# EAGLE library part PIC32MK0512MCJ048T-I/Y8X (library 2022-08-07_22-50-41_Library)
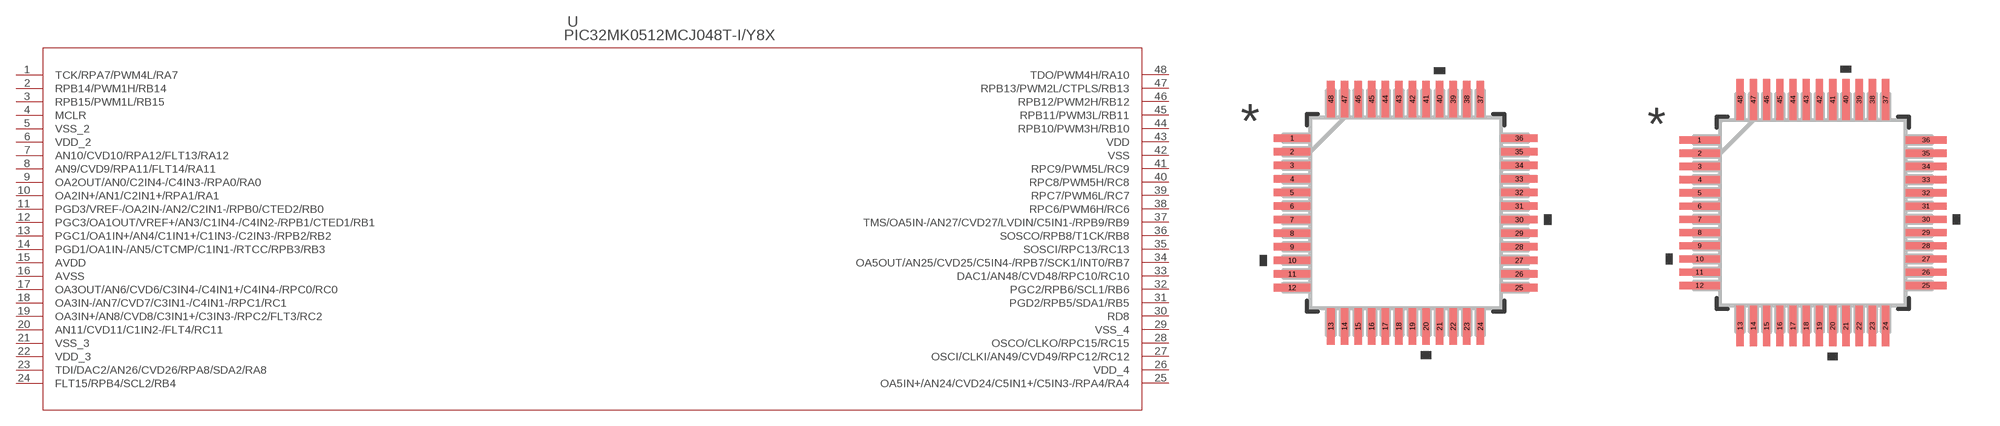
[diagram p0: symbol with the pads of TQFP48_Y8X_MCH; footprints TQFP48_Y8X_MCH, TQFP48_Y8X_MCH-M]

Designator prefix U

## PIC32MK0512MCJ048T-I/Y8XTQFP48_Y8X_MCH (Copyright: Copyright (C) 2022 Ultra Librarian. All rights reserved.; Manufacturer_Part_Number: PIC32MK0512MCJ048T-I/Y8X; Mfr_Name: Microchip)  [TQFP48_Y8X_MCH]
1  TCK/RPA7/PWM4L/RA7
2  RPB14/PWM1H/RB14
3  RPB15/PWM1L/RB15
4  MCLR  in
5  VSS_2  pas
6  VDD_2  pwr
7  AN10/CVD10/RPA12/FLT13/RA12
8  AN9/CVD9/RPA11/FLT14/RA11
9  OA2OUT/AN0/C2IN4-/C4IN3-/RPA0/RA0
10  OA2IN+/AN1/C2IN1+/RPA1/RA1
11  PGD3/VREF-/OA2IN-/AN2/C2IN1-/RPB0/CTED2/RB0
12  PGC3/OA1OUT/VREF+/AN3/C1IN4-/C4IN2-/RPB1/CTED1/RB1
13  PGC1/OA1IN+/AN4/C1IN1+/C1IN3-/C2IN3-/RPB2/RB2
14  PGD1/OA1IN-/AN5/CTCMP/C1IN1-/RTCC/RPB3/RB3
15  AVDD  pwr
16  AVSS  pas
17  OA3OUT/AN6/CVD6/C3IN4-/C4IN1+/C4IN4-/RPC0/RC0
18  OA3IN-/AN7/CVD7/C3IN1-/C4IN1-/RPC1/RC1
19  OA3IN+/AN8/CVD8/C3IN1+/C3IN3-/RPC2/FLT3/RC2
20  AN11/CVD11/C1IN2-/FLT4/RC11
21  VSS_3  pas
22  VDD_3  pwr
23  TDI/DAC2/AN26/CVD26/RPA8/SDA2/RA8
24  FLT15/RPB4/SCL2/RB4
25  OA5IN+/AN24/CVD24/C5IN1+/C5IN3-/RPA4/RA4
26  VDD_4  pwr
27  OSCI/CLKI/AN49/CVD49/RPC12/RC12
28  OSCO/CLKO/RPC15/RC15
29  VSS_4  pas
30  RD8
31  PGD2/RPB5/SDA1/RB5
32  PGC2/RPB6/SCL1/RB6
33  DAC1/AN48/CVD48/RPC10/RC10
34  OA5OUT/AN25/CVD25/C5IN4-/RPB7/SCK1/INT0/RB7
35  SOSCI/RPC13/RC13
36  SOSCO/RPB8/T1CK/RB8
37  TMS/OA5IN-/AN27/CVD27/LVDIN/C5IN1-/RPB9/RB9
38  RPC6/PWM6H/RC6
39  RPC7/PWM6L/RC7
40  RPC8/PWM5H/RC8
41  RPC9/PWM5L/RC9
42  VSS  pas
43  VDD  pwr
44  RPB10/PWM3H/RB10
45  RPB11/PWM3L/RB11
46  RPB12/PWM2H/RB12
47  RPB13/PWM2L/CTPLS/RB13
48  TDO/PWM4H/RA10

## PIC32MK0512MCJ048T-I/Y8XTQFP48_Y8X_MCH-M (Copyright: Copyright (C) 2022 Ultra Librarian. All rights reserved.; Manufacturer_Part_Number: PIC32MK0512MCJ048T-I/Y8X; Mfr_Name: Microchip)  [TQFP48_Y8X_MCH-M]
Pads as for TQFP48_Y8X_MCH

## PIC32MK0512MCJ048T-I/Y8XTQFP48_Y8X_MCH-L (Copyright: Copyright (C) 2022 Ultra Librarian. All rights reserved.; Manufacturer_Part_Number: PIC32MK0512MCJ048T-I/Y8X; Mfr_Name: Microchip)  [TQFP48_Y8X_MCH-L]
Pads as for TQFP48_Y8X_MCH

## Footprint TQFP48_Y8X_MCH (pad centres in mm)
smd 1.346 x 0.279: 1 -4.178,2.75; 2 -4.178,2.25; 3 -4.178,1.75; 4 -4.178,1.25; 5 -4.178,0.75; 6 -4.178,0.25; 7 -4.178,-0.25; 8 -4.178,-0.75; 9 -4.178,-1.25; 10 -4.178,-1.75; 11 -4.178,-2.25; 12 -4.178,-2.75; 25 4.178,-2.75; 26 4.178,-2.25; 27 4.178,-1.75; 28 4.178,-1.25; 29 4.178,-0.75; 30 4.178,-0.25; 31 4.178,0.25; 32 4.178,0.75; 33 4.178,1.25; 34 4.178,1.75; 35 4.178,2.25; 36 4.178,2.75
smd 0.279 x 1.346: 13 -2.75,-4.178; 14 -2.25,-4.178; 15 -1.75,-4.178; 16 -1.25,-4.178; 17 -0.75,-4.178; 18 -0.25,-4.178; 19 0.25,-4.178; 20 0.75,-4.178; 21 1.25,-4.178; 22 1.75,-4.178; 23 2.25,-4.178; 24 2.75,-4.178; 37 2.75,4.178; 38 2.25,4.178; 39 1.75,4.178; 40 1.25,4.178; 41 0.75,4.178; 42 0.25,4.178; 43 -0.25,4.178; 44 -0.75,4.178; 45 -1.25,4.178; 46 -1.75,4.178; 47 -2.25,4.178; 48 -2.75,4.178

## Footprint TQFP48_Y8X_MCH-M (pad centres in mm)
smd 1.549 x 0.279: 1 -4.28,2.75; 2 -4.28,2.25; 3 -4.28,1.75; 4 -4.28,1.25; 5 -4.28,0.75; 6 -4.28,0.25; 7 -4.28,-0.25; 8 -4.28,-0.75; 9 -4.28,-1.25; 10 -4.28,-1.75; 11 -4.28,-2.25; 12 -4.28,-2.75; 25 4.28,-2.75; 26 4.28,-2.25; 27 4.28,-1.75; 28 4.28,-1.25; 29 4.28,-0.75; 30 4.28,-0.25; 31 4.28,0.25; 32 4.28,0.75; 33 4.28,1.25; 34 4.28,1.75; 35 4.28,2.25; 36 4.28,2.75
smd 0.279 x 1.549: 13 -2.75,-4.28; 14 -2.25,-4.28; 15 -1.75,-4.28; 16 -1.25,-4.28; 17 -0.75,-4.28; 18 -0.25,-4.28; 19 0.25,-4.28; 20 0.75,-4.28; 21 1.25,-4.28; 22 1.75,-4.28; 23 2.25,-4.28; 24 2.75,-4.28; 37 2.75,4.28; 38 2.25,4.28; 39 1.75,4.28; 40 1.25,4.28; 41 0.75,4.28; 42 0.25,4.28; 43 -0.25,4.28; 44 -0.75,4.28; 45 -1.25,4.28; 46 -1.75,4.28; 47 -2.25,4.28; 48 -2.75,4.28

## Footprint TQFP48_Y8X_MCH-L (pad centres in mm)
smd 1.143 x 0.229: 1 -4.077,2.75; 2 -4.077,2.25; 3 -4.077,1.75; 4 -4.077,1.25; 5 -4.077,0.75; 6 -4.077,0.25; 7 -4.077,-0.25; 8 -4.077,-0.75; 9 -4.077,-1.25; 10 -4.077,-1.75; 11 -4.077,-2.25; 12 -4.077,-2.75; 25 4.077,-2.75; 26 4.077,-2.25; 27 4.077,-1.75; 28 4.077,-1.25; 29 4.077,-0.75; 30 4.077,-0.25; 31 4.077,0.25; 32 4.077,0.75; 33 4.077,1.25; 34 4.077,1.75; 35 4.077,2.25; 36 4.077,2.75
smd 0.229 x 1.143: 13 -2.75,-4.077; 14 -2.25,-4.077; 15 -1.75,-4.077; 16 -1.25,-4.077; 17 -0.75,-4.077; 18 -0.25,-4.077; 19 0.25,-4.077; 20 0.75,-4.077; 21 1.25,-4.077; 22 1.75,-4.077; 23 2.25,-4.077; 24 2.75,-4.077; 37 2.75,4.077; 38 2.25,4.077; 39 1.75,4.077; 40 1.25,4.077; 41 0.75,4.077; 42 0.25,4.077; 43 -0.25,4.077; 44 -0.75,4.077; 45 -1.25,4.077; 46 -1.75,4.077; 47 -2.25,4.077; 48 -2.75,4.077